# EAGLE library part IS42S16400J (library IS42S16400J)
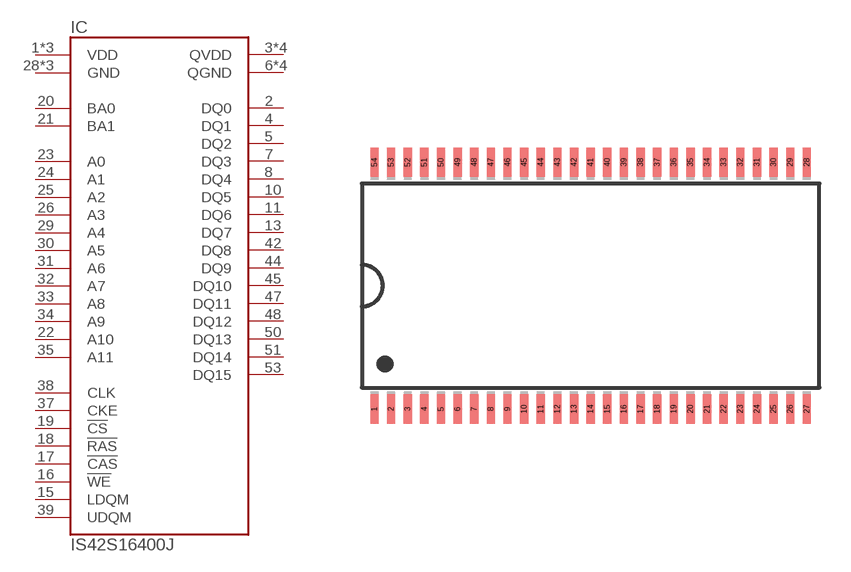
[diagram p0: symbol with the pads of TSOP54-II; footprint TSOP54-II]

Designator prefix IC

## IS42S16400J  [TSOP54-II]
1  VDD
2  DQ0
3  QVDD
4  DQ1
5  DQ2
6  QGND
7  DQ3
8  DQ4
9  QVDD
10  DQ5
11  DQ6
12  QGND
13  DQ7
14  VDD
15  LDQM
16  !WE!
17  !CAS!
18  !RAS!
19  !CS!
20  BA0
21  BA1
22  A10
23  A0
24  A1
25  A2
26  A3
27  VDD
28  GND
29  A4
30  A5
31  A6
32  A7
33  A8
34  A9
35  A11
37  CKE
38  CLK
39  UDQM
41  GND
42  DQ8
43  QVDD
44  DQ9
45  DQ10
46  QGND
47  DQ11
48  DQ12
49  QVDD
50  DQ13
51  DQ14
52  QGND
53  DQ15
54  GND

## Footprint TSOP54-II (pad centres in mm)
smd 0.4 x 1.4: 1 -10.4,-5.93; 2 -9.6,-5.93; 3 -8.8,-5.93; 4 -8,-5.93; 5 -7.2,-5.93; 6 -6.4,-5.93; 7 -5.6,-5.93; 8 -4.8,-5.93; 9 -4,-5.93; 10 -3.2,-5.93; 11 -2.4,-5.93; 12 -1.6,-5.93; 13 -0.8,-5.93; 14 0,-5.93; 15 0.8,-5.93; 16 1.6,-5.93; 17 2.4,-5.93; 18 3.2,-5.93; 19 4,-5.93; 20 4.8,-5.93; 21 5.6,-5.93; 22 6.4,-5.93; 23 7.2,-5.93; 24 8,-5.93; 25 8.8,-5.93; 26 9.6,-5.93; 27 10.4,-5.93; 28 10.4,5.93; 29 9.6,5.93; 30 8.8,5.93; 31 8,5.93; 32 7.2,5.93; 33 6.4,5.93; 34 5.6,5.93; 35 4.8,5.93; 36 4,5.93; 37 3.2,5.93; 38 2.4,5.93; 39 1.6,5.93; 40 0.8,5.93; 41 0,5.93; 42 -0.8,5.93; 43 -1.6,5.93; 44 -2.4,5.93; 45 -3.2,5.93; 46 -4,5.93; 47 -4.8,5.93; 48 -5.6,5.93; 49 -6.4,5.93; 50 -7.2,5.93; 51 -8,5.93; 52 -8.8,5.93; 53 -9.6,5.93; 54 -10.4,5.93